# Altium schematic symbol library SCH - MCU - NUVOTON - NUVOTON ML54MD1AE.SchLib: 1 symbol
Pins are listed as number, name and electrical type; pins without a type are passive.

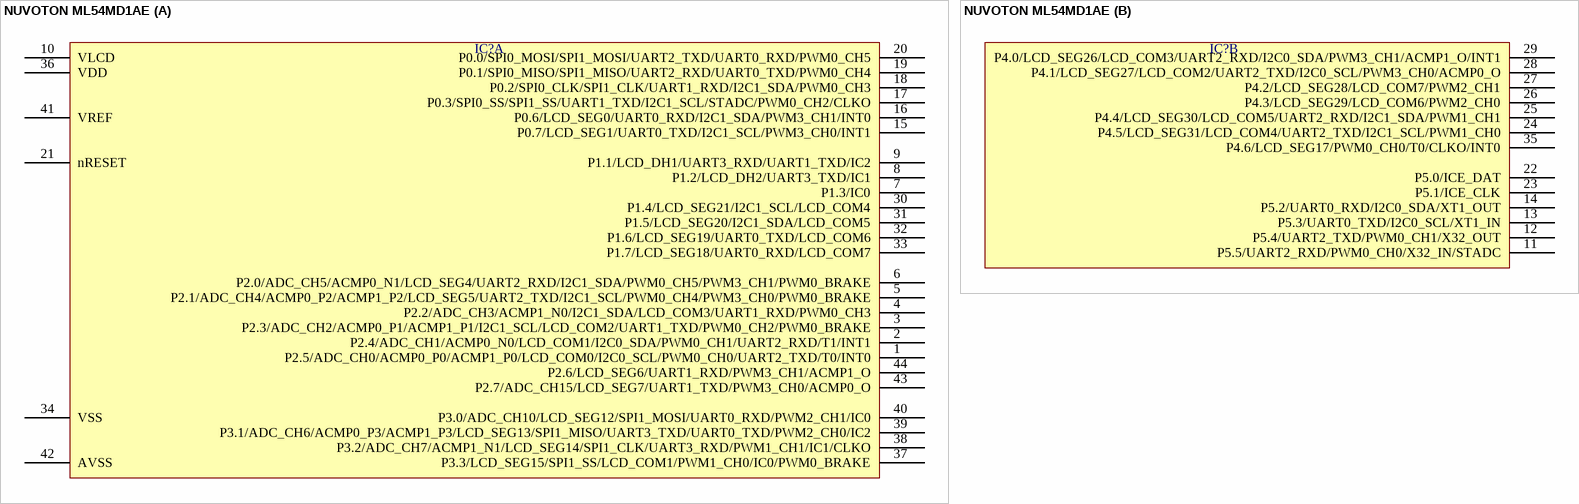
[diagram p0: symbol NUVOTON ML54MD1AE]

## NUVOTON ML54MD1AE
designator IC?  (value not drawn)
part A pins: 1 P2.5/ADC_CH0/ACMP0_P0/ACMP1_P0/LCD_COM0/I2C0_SCL/PWM0_CH0/UART2_TXD/T0/INT0, 2 P2.4/ADC_CH1/ACMP0_N0/LCD_COM1/I2C0_SDA/PWM0_CH1/UART2_RXD/T1/INT1, 3 P2.3/ADC_CH2/ACMP0_P1/ACMP1_P1/I2C1_SCL/LCD_COM2/UART1_TXD/PWM0_CH2/PWM0_BRAKE, 4 P2.2/ADC_CH3/ACMP1_N0/I2C1_SDA/LCD_COM3/UART1_RXD/PWM0_CH3, 5 P2.1/ADC_CH4/ACMP0_P2/ACMP1_P2/LCD_SEG5/UART2_TXD/I2C1_SCL/PWM0_CH4/PWM3_CH0/PWM0_BRAKE, 6 P2.0/ADC_CH5/ACMP0_N1/LCD_SEG4/UART2_RXD/I2C1_SDA/PWM0_CH5/PWM3_CH1/PWM0_BRAKE, 7 P1.3/IC0, 8 P1.2/LCD_DH2/UART3_TXD/IC1, 9 P1.1/LCD_DH1/UART3_RXD/UART1_TXD/IC2, 10 VLCD, 15 P0.7/LCD_SEG1/UART0_TXD/I2C1_SCL/PWM3_CH0/INT1, 16 P0.6/LCD_SEG0/UART0_RXD/I2C1_SDA/PWM3_CH1/INT0, 17 P0.3/SPI0_SS/SPI1_SS/UART1_TXD/I2C1_SCL/STADC/PWM0_CH2/CLKO, 18 P0.2/SPI0_CLK/SPI1_CLK/UART1_RXD/I2C1_SDA/PWM0_CH3, 19 P0.1/SPI0_MISO/SPI1_MISO/UART2_RXD/UART0_TXD/PWM0_CH4, 20 P0.0/SPI0_MOSI/SPI1_MOSI/UART2_TXD/UART0_RXD/PWM0_CH5, 21 nRESET, 30 P1.4/LCD_SEG21/I2C1_SCL/LCD_COM4, 31 P1.5/LCD_SEG20/I2C1_SDA/LCD_COM5, 32 P1.6/LCD_SEG19/UART0_TXD/LCD_COM6, 33 P1.7/LCD_SEG18/UART0_RXD/LCD_COM7, 34 VSS, 36 VDD, 37 P3.3/LCD_SEG15/SPI1_SS/LCD_COM1/PWM1_CH0/IC0/PWM0_BRAKE, 38 P3.2/ADC_CH7/ACMP1_N1/LCD_SEG14/SPI1_CLK/UART3_RXD/PWM1_CH1/IC1/CLKO, 39 P3.1/ADC_CH6/ACMP0_P3/ACMP1_P3/LCD_SEG13/SPI1_MISO/UART3_TXD/UART0_TXD/PWM2_CH0/IC2, 40 P3.0/ADC_CH10/LCD_SEG12/SPI1_MOSI/UART0_RXD/PWM2_CH1/IC0, 41 VREF, 42 AVSS, 43 P2.7/ADC_CH15/LCD_SEG7/UART1_TXD/PWM3_CH0/ACMP0_O, 44 P2.6/LCD_SEG6/UART1_RXD/PWM3_CH1/ACMP1_O
part B pins: 11 P5.5/UART2_RXD/PWM0_CH0/X32_IN/STADC, 12 P5.4/UART2_TXD/PWM0_CH1/X32_OUT, 13 P5.3/UART0_TXD/I2C0_SCL/XT1_IN, 14 P5.2/UART0_RXD/I2C0_SDA/XT1_OUT, 22 P5.0/ICE_DAT, 23 P5.1/ICE_CLK, 24 P4.5/LCD_SEG31/LCD_COM4/UART2_TXD/I2C1_SCL/PWM1_CH0, 25 P4.4/LCD_SEG30/LCD_COM5/UART2_RXD/I2C1_SDA/PWM1_CH1, 26 P4.3/LCD_SEG29/LCD_COM6/PWM2_CH0, 27 P4.2/LCD_SEG28/LCD_COM7/PWM2_CH1, 28 P4.1/LCD_SEG27/LCD_COM2/UART2_TXD/I2C0_SCL/PWM3_CH0/ACMP0_O, 29 P4.0/LCD_SEG26/LCD_COM3/UART2_RXD/I2C0_SDA/PWM3_CH1/ACMP1_O/INT1, 35 P4.6/LCD_SEG17/PWM0_CH0/T0/CLKO/INT0